# Altium footprint library Flomio BLE-NFC.PcbLib: 24 footprints (part 1 of 2)
Each footprint in its own frame and in the unit in brackets; x right, y up, seen from the top. Pads: shape width x height; smd on the part's side, far side on the other; paste and mask are expansions set on the pad; w line width, h text height; cw(c..) or ccw(c..) is an arc to the next point about the centre after c.
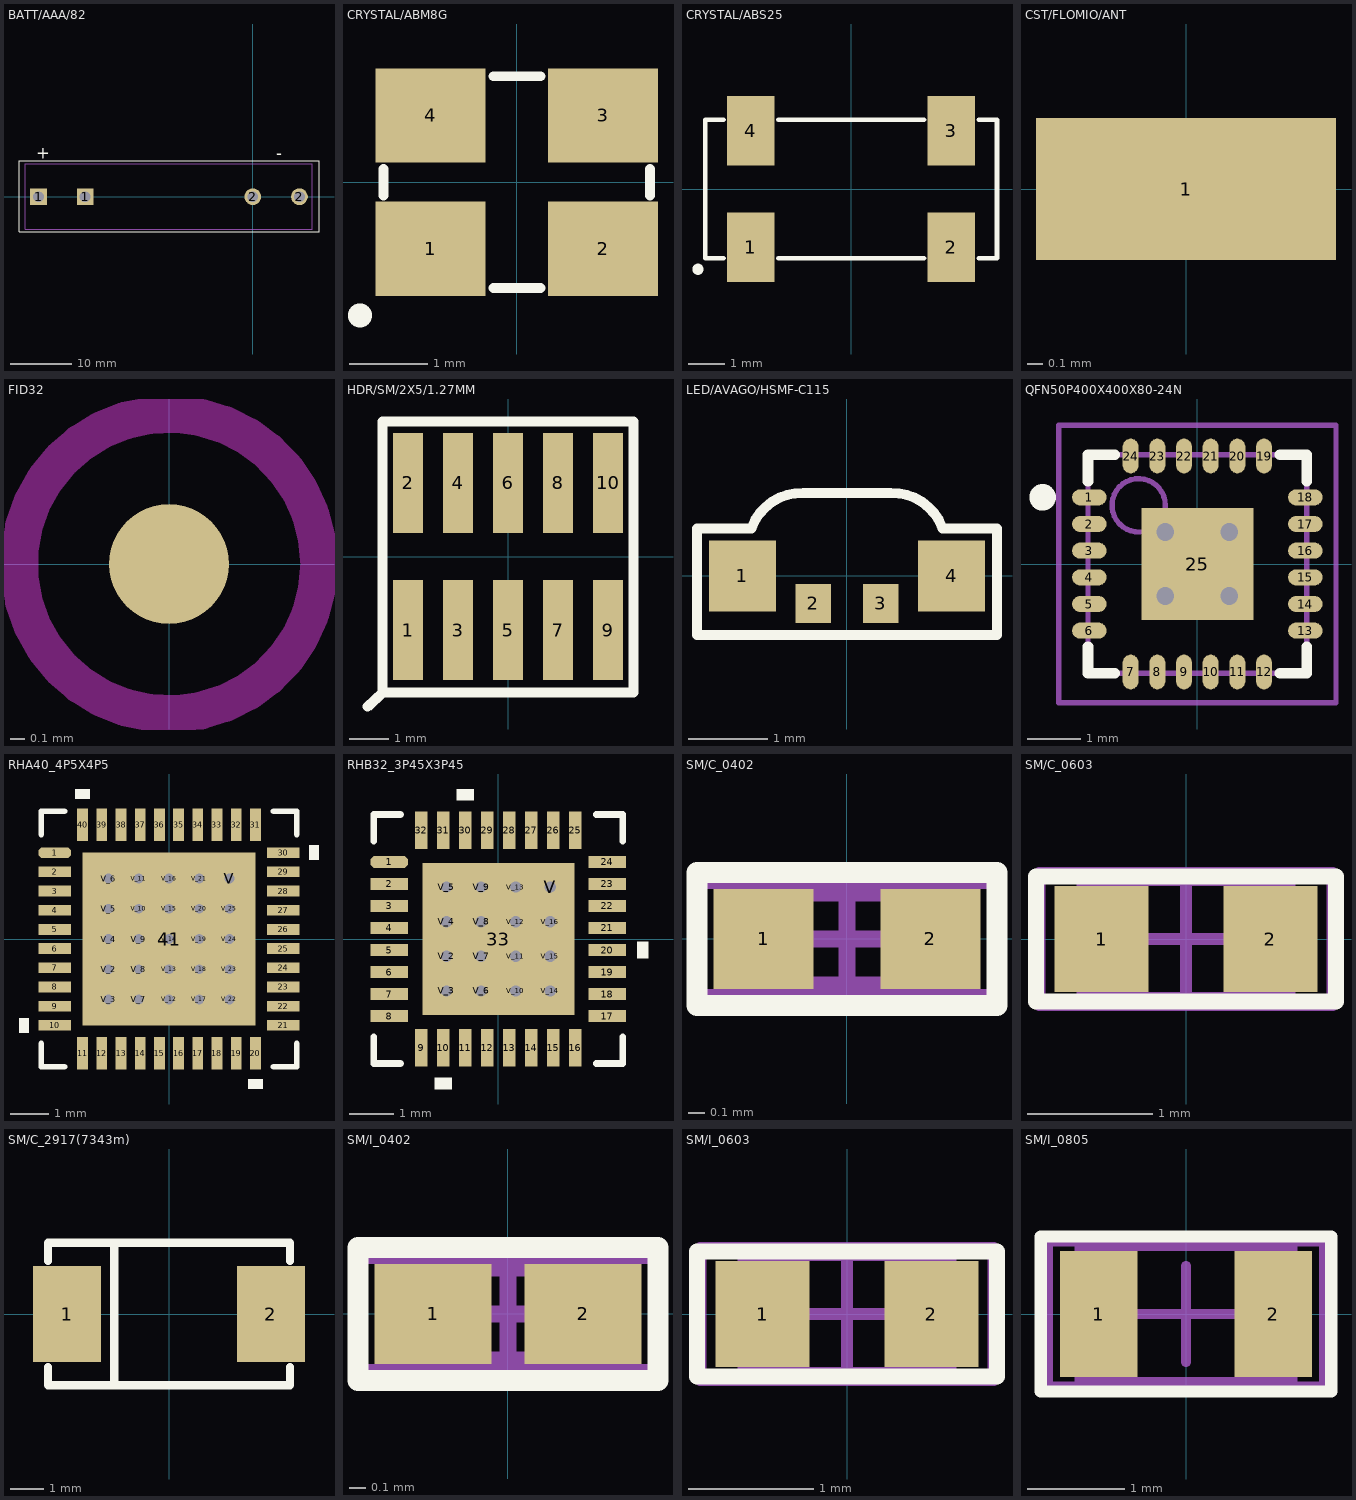
[diagram p0: the footprints below, top view; thin cyan lines are the x and y axes]

## BATT/AAA/82 [mil] "Battery Holder: 2 X 82 Clips for a Single AAA Battery"
height 525.2
pads (4):
  rect 108x108 hole 70: 1(-1380,0) 1(-1080,0)
  round 108 hole 68: 2(0,0)
  round 108 hole 70: 2(300,0)
Top Overlay:
  lines w7.87: -1505.98,-224.41 -1505.98,230.31 425.98,230.31 425.98,-224.41 -1505.98,-224.41
  text "+" at -1395,245 h78.74
  text "-" at 149.61,242.13 h78.74
Mechanical 3:
  lines w3.94: -1464.57,-210.63 -1464.57,212.6 383.86,212.6 383.86,-210.63 -1464.57,-210.63
3D body: height 524.88, standoff -155.31, extent -1462.98,-211.46 -1080,211.46
3D body: height 524.88, standoff -155.31, extent 0,-211.46 382.98,211.46

## CRYSTAL/ABM8G [mm]
height 1
pads (4):
  rect 1.4x1.2 smd: 1(-1.1,-0.85) 2(1.1,-0.85) 3(1.1,0.85) 4(-1.1,0.85)
Top Overlay:
  circle w0.254: c-2,-1.7 r0.025
  lines w0.127: -1.7,-0.17 -1.7,0.17 ; -0.3,-1.35 0.3,-1.35 ; -0.3,1.35 0.3,1.35 ; 1.7,-0.17 1.7,0.17
3D body: height 0.99, standoff -0.02, extent -1.6,-1.25 1.6,1.25

## CRYSTAL/ABS25 [mm]
height 2.5
pads (4):
  rect 1.3x1.9 smd: 1(-2.75,-1.6) 2(2.75,-1.6) 3(2.75,1.6) 4(-2.75,1.6)
Top Overlay:
  circle w0.254: c-4.2,-2.2 r0.025
  lines w0.127: -3.5,-1.9 -4,-1.9 -4,1.9 -3.5,1.9 ; -2,-1.9 2,-1.9 ; -2,1.9 2,1.9 ; 3.5,-1.9 4,-1.9 4,1.9 3.5,1.9
3D body: height 2.7, standoff -0.01, extent -4,-1.994 4,2.005

## CST/FLOMIO/ANT [mm]
pads (1):
  rect 1.9x0.9 smd: 1(0,0)

## FID32 [mil]
pads (1):
  round 32 smd: ""(0,0)
Top Layer keep-out:
  circle w10: c0,0 r40

## HDR/SM/2X5/1.27MM [mm]
pads (10):
  rect 0.762x2.54 smd: 1(-2.54,-1.87) 2(-2.54,1.87) 3(-1.27,-1.87) 4(-1.27,1.87) 5(0,-1.87) 6(0,1.87) 7(1.27,-1.87) 8(1.27,1.87) 9(2.54,-1.87) 10(2.54,1.87)
Top Overlay:
  lines w0.254: -3.563,-3.812 -3.19,-3.457 ; 3.187,-3.438 3.187,3.438 -3.187,3.438 -3.19,-3.457 ; 3.19,-3.457 -3.19,-3.457
3D body: height 5.96, standoff -0.01, extent -3.175,-2.992 3.175,2.85

## LED/AVAGO/HSMF-C115 [mm] "SMT"
height 1.016
pads (4):
  rect 0.85x0.9 smd mask+0.025: 1(-1.325,0) 4(1.325,0)
  rect 0.45x0.5 smd mask+0.025: 2(-0.425,-0.35) 3(0.425,-0.35)
Top Overlay:
  lines w0.127: -1.211,0.6 -1.9,0.6 -1.9,-0.75 0,-0.75 1.9,-0.75 1.9,0.6 1.211,0.6 ; -1.211,0.604 cw(c-0.575,0.375) -0.55,1.05 0,1.05 0.55,1.05 cw(c0.575,0.375) 1.211,0.604
Mechanical 8:
  text ".Designator" at -3.343,-1.077 h0.51
Mechanical 9:
  text ".Comment" at 3.118,-1.276 h1.02
3D body: height 1.02, standoff 0.02, extent -1.25,-0.25 1.25,0.76

## QFN50P400X400X80-24N [mm] "QFN, 24-Leads, Body 4.1x4.1mm (max), Pitch 0.50mm, IPC Medium Density"
height 0.8
pads (25):
  oval 0.65x0.3 smd: 1(-2.025,1.25) 2(-2.025,0.75) 3(-2.025,0.25) 4(-2.025,-0.25) 5(-2.025,-0.75) 6(-2.025,-1.25) 13(2.025,-1.25) 14(2.025,-0.75) 15(2.025,-0.25) 16(2.025,0.25) 17(2.025,0.75) 18(2.025,1.25)
  oval 0.3x0.65 smd: 7(-1.25,-2.025) 8(-0.75,-2.025) 9(-0.25,-2.025) 10(0.25,-2.025) 11(0.75,-2.025) 12(1.25,-2.025) 19(1.25,2.025) 20(0.75,2.025) 21(0.25,2.025) 22(-0.25,2.025) 23(-0.75,2.025) 24(-1.25,2.025)
  rect 2.1x2.1 smd: 25(0,0)
via 0.6,-0.6 diameter 0.66 hole 0.33
via -0.6,-0.6 diameter 0.66 hole 0.33
via 0.6,0.6 diameter 0.66 hole 0.33
via -0.6,0.6 diameter 0.66 hole 0.33
Top Overlay:
  circle w0.25: c-2.9,1.25 r0.125
  lines w0.2: -2.05,-1.55 -2.05,-2.05 -1.55,-2.05 ; -2.05,1.55 -2.05,2.05 -1.55,2.05 ; 1.55,-2.05 2.05,-2.05 2.05,-1.55 ; 1.55,2.05 2.05,2.05 2.05,1.55
Mechanical 13:
  circle w0.1: c-1.1,1.1 r0.5
  lines w0.1: -2.05,-2.05 2.05,-2.05 2.05,2.05 -2.05,2.05 -2.05,-2.05
Mechanical 15:
  lines w0.1: -0.5,0 0.5,0 ; 0,-0.5 0,0.5 ; -2.6,-2.6 2.6,-2.6 2.6,2.6 -2.6,2.6 -2.6,-2.6
3D body: height 0.8, standoff 0.01, extent -2.05,-2.05 2.05,2.05

## RHA40_4P5X4P5 [mm]
height 1
pads (66):
  oct 0.85x0.28 smd: 1(-2.975,2.25)
  rect 0.85x0.28 smd paste-0.14: 2(-2.975,1.75) 3(-2.975,1.25) 4(-2.975,0.75) 5(-2.975,0.25) 6(-2.975,-0.25) 7(-2.975,-0.75) 8(-2.975,-1.25) 9(-2.975,-1.75) 10(-2.975,-2.25) 21(2.975,-2.25) 22(2.975,-1.75) 23(2.975,-1.25) 24(2.975,-0.75) 25(2.975,-0.25) 26(2.975,0.25) 27(2.975,0.75) 28(2.975,1.25) 29(2.975,1.75) 30(2.975,2.25)
  rect 0.28x0.85 smd paste-0.14: 11(-2.251,-2.975) 12(-1.75,-2.975) 13(-1.25,-2.975) 14(-0.75,-2.975) 15(-0.25,-2.975) 16(0.25,-2.975) 17(0.75,-2.975) 18(1.25,-2.975) 19(1.75,-2.975) 20(2.251,-2.975) 31(2.251,2.975) 32(1.75,2.975) 33(1.25,2.975) 34(0.75,2.975) 35(0.25,2.975) 36(-0.25,2.975) 37(-0.75,2.975) 38(-1.25,2.975) 39(-1.75,2.975) 40(-2.251,2.975)
  rect 4.5x4.5 smd paste-2.237 mask-2.235: 41(0,0)
  round 0.508 / inner round 1.524 / far side round 0.508 hole 0.254: V(1.575,1.575) V_2(-1.575,-0.787) V_3(-1.575,-1.575) V_4(-1.575,0) V_5(-1.575,0.787) V_6(-1.575,1.575) V_7(-0.787,-1.575) V_8(-0.787,-0.787) V_9(-0.787,0) V_10(-0.787,0.787) V_11(-0.787,1.575) V_12(0,-1.575) V_13(0,-0.787) V_14(0,0) V_15(0,0.787) V_16(0,1.575) V_17(0.787,-1.575) V_18(0.787,-0.787) V_19(0.787,0) V_20(0.787,0.787) V_21(0.787,1.575) V_22(1.575,-1.575) V_23(1.575,-0.787) V_24(1.575,0) V_25(1.575,0.787)
Top Overlay:
  region: -3.654,-2.06 -3.908,-2.06 -3.908,-2.441 -3.654,-2.441
  region: 2.441,-3.654 2.06,-3.654 2.06,-3.908 2.441,-3.908
  region: 3.654,2.441 3.908,2.441 3.908,2.06 3.654,2.06
  region: -2.06,3.654 -2.441,3.654 -2.441,3.908 -2.06,3.908
  lines w0.152: -3.329,-2.723 -3.329,-3.329 -2.723,-3.329 ; -3.329,2.723 -3.329,3.329 -2.723,3.329 ; 2.723,-3.329 3.329,-3.329 3.329,-2.723 ; 2.723,3.329 3.329,3.329 3.329,2.723
Top Paste:
  drawing of 75 lines, arcs and shapes, not listed
Top Solder:
  drawing of 51 lines, arcs and shapes, not listed
3D body: height 1.04, standoff -0.01, extent -3.08,-3.07 3.069,3.08

## RHB32_3P45X3P45 [mm]
pads (49):
  oct 0.85x0.28 smd: 1(-2.475,1.75)
  rect 0.85x0.28 smd paste-0.14: 2(-2.475,1.25) 3(-2.475,0.75) 4(-2.475,0.25) 5(-2.475,-0.25) 6(-2.475,-0.75) 7(-2.475,-1.25) 8(-2.475,-1.75) 17(2.475,-1.75) 18(2.475,-1.25) 19(2.475,-0.75) 20(2.475,-0.25) 21(2.475,0.25) 22(2.475,0.75) 23(2.475,1.25) 24(2.475,1.75)
  rect 0.28x0.85 smd paste-0.14: 9(-1.75,-2.475) 10(-1.25,-2.475) 11(-0.75,-2.475) 12(-0.25,-2.475) 13(0.25,-2.475) 14(0.75,-2.475) 15(1.25,-2.475) 16(1.75,-2.475) 25(1.75,2.475) 26(1.25,2.475) 27(0.75,2.475) 28(0.25,2.475) 29(-0.25,2.475) 30(-0.75,2.475) 31(-1.25,2.475) 32(-1.75,2.475)
  rect 3.45x3.45 smd paste-1.712 mask-1.714: 33(0,0)
  round 0.508 / inner round 1.524 / far side round 0.508 hole 0.254: V(1.181,1.181) V_2(-1.181,-0.394) V_3(-1.181,-1.181) V_4(-1.181,0.394) V_5(-1.181,1.181) V_6(-0.394,-1.181) V_7(-0.394,-0.394) V_8(-0.394,0.394) V_9(-0.394,1.181) V_10(0.394,-1.181) V_11(0.394,-0.394) V_12(0.394,0.394) V_13(0.394,1.181) V_14(1.181,-1.181) V_15(1.181,-0.394) V_16(1.181,0.394)
Top Overlay:
  region: -1.06,-3.154 -1.441,-3.154 -1.441,-3.408 -1.06,-3.408
  region: 3.154,-0.059 3.408,-0.059 3.408,-0.44 3.154,-0.44
  region: -0.56,3.154 -0.941,3.154 -0.941,3.408 -0.56,3.408
  lines w0.152: -2.829,-2.223 -2.829,-2.829 -2.223,-2.829 ; -2.829,2.223 -2.829,2.829 -2.223,2.829 ; 2.223,-2.829 2.829,-2.829 2.829,-2.223 ; 2.223,2.829 2.829,2.829 2.829,2.223
Top Paste:
  drawing of 56 lines, arcs and shapes, not listed
Top Solder:
  drawing of 41 lines, arcs and shapes, not listed
3D body: height 0.71, standoff -0.04, extent -2.5,-2.5 2.5,2.5

## SM/C_0402 [mm] "0402 Cap"
height 0.4
pads (2):
  rect 0.6x0.6 smd: 1(-0.5,0) 2(0.5,0)
Top Overlay:
  lines w0.127: -0.9,-0.4 -0.9,0.4 0.9,0.4 0.9,-0.4 -0.9,-0.4
Mechanical 13:
  lines w0.1: -0.525,-0.275 -0.525,0.275 0.525,0.275 0.525,-0.275 -0.525,-0.275
Mechanical 15:
  lines w0.1: -0.275,0 0.275,0 ; 0,-0.275 0,0.275 ; -0.9,-0.35 -0.9,0.35 0.9,0.35 0.9,-0.35 -0.9,-0.35
3D body: height 0.4, standoff 0, extent -0.525,-0.275 0.525,0.275

## SM/C_0603 [mm] "0603 Cap"
height 0.5
pads (2):
  rect 0.75x0.85 smd: 1(-0.675,0) 2(0.675,0)
Top Overlay:
  lines w0.127: -1.2,-0.5 -1.2,0.5 1.2,0.5 1.2,-0.5 -1.2,-0.5
Mechanical 13:
  lines w0.1: -0.825,-0.475 -0.825,0.475 0.825,0.475 0.825,-0.475 -0.825,-0.475
Mechanical 15:
  lines w0.1: -0.475,0 0.475,0 ; 0,-0.475 0,0.475 ; -1.175,-0.525 -1.175,0.525 1.175,0.525 1.175,-0.525 -1.175,-0.525
3D body: height 0.5, standoff 0, extent -0.825,-0.475 0.825,0.475

## SM/C_2917(7343m) [mm]
height 3
pads (2):
  rect 2.05x2.9 smd: 1(-3.075,0) 2(3.075,0)
Top Overlay:
  lines w0.254: -3.65,-1.6 -3.65,-2.15 3.65,-2.15 3.65,-1.6 ; -3.65,1.6 -3.65,2.15 3.65,2.15 3.65,1.6 ; -1.65,-2.15 -1.65,2.15
3D body: height 3, standoff 0, extent -3.649,-2.149 3.649,2.149

## SM/I_0402 [mm] "0402 Inductor"
height 0.4
pads (2):
  rect 0.7x0.6 smd: 1(-0.45,0) 2(0.45,0)
Top Overlay:
  lines w0.127: -0.9,-0.4 0.9,-0.4 0.9,0.4 -0.9,0.4 -0.9,-0.4
Mechanical 13:
  lines w0.1: -0.525,-0.275 -0.525,0.275 0.525,0.275 0.525,-0.275 -0.525,-0.275
Mechanical 15:
  lines w0.1: -0.275,0 0.275,0 ; 0,-0.275 0,0.275 ; -0.9,-0.35 -0.9,0.35 0.9,0.35 0.9,-0.35 -0.9,-0.35
3D body: height 0.4, standoff 0, extent -0.525,-0.275 0.525,0.275

## SM/I_0603 [mm] "0603 Inductor"
height 0.5
pads (2):
  rect 0.75x0.85 smd: 1(-0.675,0) 2(0.675,0)
Top Overlay:
  lines w0.127: -1.2,-0.5 -1.2,0.5 1.2,0.5 1.2,-0.5 -1.2,-0.5
Mechanical 13:
  lines w0.1: -0.825,-0.475 -0.825,0.475 0.825,0.475 0.825,-0.475 -0.825,-0.475
Mechanical 15:
  lines w0.1: -0.475,0 0.475,0 ; 0,-0.475 0,0.475 ; -1.175,-0.525 -1.175,0.525 1.175,0.525 1.175,-0.525 -1.175,-0.525
3D body: height 0.5, standoff 0, extent -0.825,-0.475 0.825,0.475

## SM/I_0805 [mm] "0805 Inductor"
height 0.5
pads (2):
  rect 0.8x1.3 smd: 1(-0.9,0) 2(0.9,0)
Top Overlay:
  lines w0.127: -1.5,-0.8 -1.5,0.8 1.5,0.8 1.5,-0.8 -1.5,-0.8
Mechanical 13:
  lines w0.1: -1.1,-0.7 1.1,-0.7 1.1,0.7 -1.1,0.7 -1.1,-0.7
Mechanical 15:
  lines w0.1: -0.5,0 0.5,0 ; 0,-0.5 0,0.5 ; -1.425,-0.75 1.425,-0.75 1.425,0.75 -1.425,0.75 -1.425,-0.75
3D body: height 0.5, standoff 0, extent -1.1,-0.7 1.1,0.7